# EAGLE library part TPS61170 (library Base)
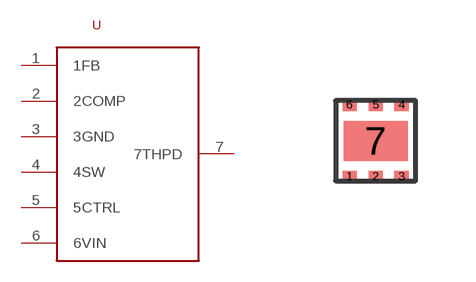
[diagram p3: symbol with the pads of QFN-6; footprint QFN-6]

Designator prefix -

## TPS61170  [QFN-6]
1  1FB
2  2COMP
3  3GND
4  4SW
5  5CTRL
6  6VIN
7  7THPD

## Footprint QFN-6 (pad centres in mm)
smd 0.35 x 0.3: 1 0.35,0.1; 2 1,0.1; 3 1.65,0.1; 4 1.65,1.9; 5 1,1.9; 6 0.35,1.9
smd 1.6 x 1: 7 1,1